# EAGLE library part 610X06243021 (library Board-to-Board (rev18a))
WR-PHD 2.54mm SMT Dual Socket Header Bottom Entry, 6 Pins=>Code : Con_BTB_SHD_2.54_2_610x06243021(packageing:x = 0: Tube x = 3: Tape & Reel with Cap) <http://katalog.we-online.de/media/images/eican/Con_BTB_SHD_2.54_2_6100xx243021_pf2.jpg> Details see: 6100xx243021 http://katalog.we-online.de/en/em/PHD_2_54_SMT_DUAL_SOCKET_HEADER_BOTTOM_ENTRY_6100XX243021 6103xx243021 http://katalog.we-online.de/en/em/PHD_2_54_SMT_DUAL_SOCKET_HEADER_BOTTOM_ENTRY_6103XX243021 2014 (C) Würth Elektronik
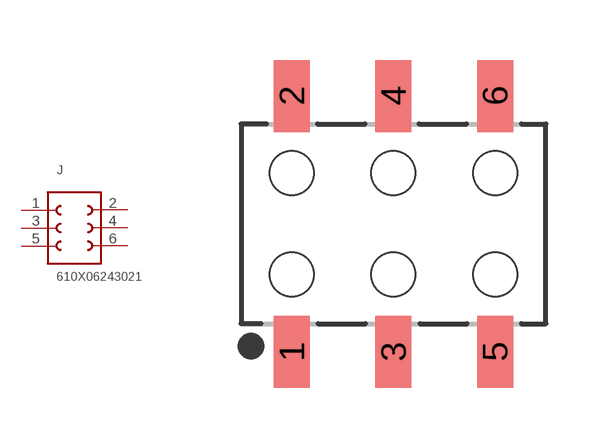
[diagram p176: symbol with the pads of 610X06243021; footprint 610X06243021]

Designator prefix J

## 610X06243021  [610X06243021]
1  1  pas
2  6  pas
3  2  pas
4  5  pas
5  3  pas
6  4  pas

## Footprint 610X06243021 (pad centres in mm)
WR-PHD 2.54mm SMT Dual Socket Header Bottom Entry, 6 Pins
smd 0.9 x 1.8: 1 -2.54,-3.2; 2 -2.54,3.2; 3 0,-3.2; 4 0,3.2; 5 2.54,-3.2; 6 2.54,3.2
hole 1.1 at -2.54,1.27
hole 1.1 at 0,1.27
hole 1.1 at 0,-1.27
hole 1.1 at -2.54,-1.27
hole 1.1 at 2.54,1.27
hole 1.1 at 2.54,-1.27